# Altium schematic symbol library LVL_SHFT_SN74HCT125DR.SchLib: 1 symbol
Pins are listed as number, name and electrical type; pins without a type are passive.

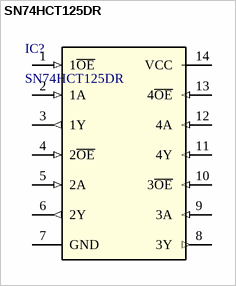
[diagram p0: symbol SN74HCT125DR]

## SN74HCT125DR
designator IC?
Buffer/Line Driver 4-CH Non-Inverting 3-ST CMOS 14-Pin SOIC T/R / IC BUS BUFF TRI-ST QD 14SOIC; Manufacturer: Texas Instruments; Manufacturer Lifecycle Status: ACTIVE; High Level Output Current: -6mA; Logic Function: Buffer, Inverting; Low Level Output Current: 6mA; Max Supply Voltage: 5.5V; Min Supply Voltage: 4.5V; Nominal Supply Current: 8µA; Number of Bits: 4; Number of Bits per Element: 1; Number of Inputs: 2; Operating Supply Voltage: 5V; Propagation Delay: 33ns; Turn-On Delay Time: 36ns; Supplier: DigiKey; Supplier Part Number: 296-1206-6-ND; Manufacturer Part Number: SN74HCT125DR; RoHS: Compliant; Category: Buffers, Drivers and Transceivers; Stock: 5749; Pricing: 1=0,36, 10=0,246, 25=0,2188, 100=0,1888, 250=0,17452, 500=0,16586, 1000=0,15874 (USD); Ambient Temperature Range High: 85°C; Case/Package: SOIC; Contact Plating: Gold; Height: 0m; Lead Free: Lead Free; Length: 8.65mm; Lifecycle Status: Production; Max Operating Temperature: 85°C; Min Operating Temperature: -40°C; Mounting Technology: Surface Mount; Number of Channels: 4; Number of Circuits: 4; Number of Elements: 4; Number of Input Lines: 4; Number of Output Lines: 4; Number of Outputs: 4; Pins: 14; Packaging: Tape & Reel; Polarity: Non-Inverting; Quiescent Current: 8µA; Radiation Hardening: No; REACH SVHC: No; Schedule B: 8542390000, 8542390000|8542390000|8542390000|8542390000|8542390000; Thickness: 1.58mm; Width: 3.91mm; ComponentLink1URL: https://sigma.octopart.com:443/182471030/technical_drawing/Texas-Instruments-SN74HCT125DR.pdf?src-supplier=Texas+Instruments; ComponentLink1Description: https://sigma.octopart.com:443/182471030/technical_drawing/Texas-Instruments-SN74HCT125DR.pdf?src-supplier=Texas+Instruments; ComponentLink2URL: https://octopart.com:443/opatz8j6/c1?t=kHjRTchamf1OEgcfGdw2KSUhwcpvAKIIc-FB5UHfXFvi1I-d_M1T4R10sj4ifHYz9TGNxLSUoWvIx3SI7rvC9uNSW-SqrDIJNlv8Qi0TmNa75oPoh_peB02lt99knWhhM93-ly3GiWOK9yQWYH3AEwBf5hNp6Gt2W6FXe98KXHBOttL1tX1EWPskv1yBnwYgmAirSOxf7aB0EHO2wQ5lloEzqyiVMuVQecV2n3eHBcjfYdHECec4niyiw3ZzGRWDfKyZzV94Ji-xNpTZfWKfZGH4cl8FZzb-4I3xggn-kiOsM3CTV17eBnzS-uHaZHrzlT18rfC2GREHSFSZiIHnrB4Luqi8FPpUJsgor3JQrJkpNEyuNZHLlpbV8UFZZut-UStbLh2o&src-supplier=Texas+Instruments; ComponentLink2Description: https://octopart.com:443/opatz8j6/c1?t=kHjRTchamf1OEgcfGdw2KSUhwcpvAKIIc-FB5UHfXFvi1I-d_M1T4R10sj4ifHYz9TGNxLSUoWvIx3SI7rvC9uNSW-SqrDIJNlv8Qi0TmNa75oPoh_peB02lt99knWhhM93-ly3GiWOK9yQWYH3AEwBf5hNp6Gt2W6FXe98KXHBOttL1tX1EWPskv1yBnwYgmAirSOxf7aB0EHO2wQ5lloEzqyiVMuVQecV2n3eHBcjfYdHECec4niyiw3ZzGRWDfKyZzV94Ji-xNpTZfWKfZGH4cl8FZzb-4I3xggn-kiOsM3CTV17eBnzS-uHaZHrzlT18rfC2GREHSFSZiIHnrB4Luqi8FPpUJsgor3JQrJkpNEyuNZHLlpbV8UFZZut-UStbLh2o&src-supplier=Texas+Instruments; ComponentLink3URL: https://datasheet.octopart.com:443/SN74HCT125DR-Texas-Instruments-datasheet-27379623.pdf?src-supplier=Texas+Instruments; ComponentLink3Description: https://datasheet.octopart.com:443/SN74HCT125DR-Texas-Instruments-datasheet-27379623.pdf?src-supplier=Texas+Instruments; ComponentLink4URL: https://datasheet.octopart.com:443/SN74HCT125DR-Texas-Instruments-datasheet-10254676.pdf?src-supplier=Texas+Instruments; ComponentLink4Description: https://datasheet.octopart.com:443/SN74HCT125DR-Texas-Instruments-datasheet-10254676.pdf?src-supplier=Texas+Instruments; ComponentLink5URL: https://sigma.octopart.com:443/49249646/technical_drawing/Texas-Instruments-SN74HCT125DR.pdf?src-supplier=Texas+Instruments; ComponentLink5Description: https://sigma.octopart.com:443/49249646/technical_drawing/Texas-Instruments-SN74HCT125DR.pdf?src-supplier=Texas+Instruments; ComponentLink6URL: https://datasheet.octopart.com:443/SN74HCT125DR-Texas-Instruments-datasheet-152071.pdf?src-supplier=Texas+Instruments; ComponentLink6Description: https://datasheet.octopart.com:443/SN74HCT125DR-Texas-Instruments-datasheet-152071.pdf?src-supplier=Texas+Instruments; ComponentLink7URL: https://datasheet.octopart.com:443/SN74HCT125DR-Texas-Instruments-datasheet-148780591.pdf?src-supplier=Upverter; ComponentLink7Description: https://datasheet.octopart.com:443/SN74HCT125DR-Texas-Instruments-datasheet-148780591.pdf?src-supplier=Upverter; ComponentLink8URL: https://datasheet.octopart.com:443/SN74HCT125DR-Texas-Instruments-datasheet-164417431.pdf?src-supplier=SHENGYU+ELECTRONICS; ComponentLink8Description: https://datasheet.octopart.com:443/SN74HCT125DR-Texas-Instruments-datasheet-164417431.pdf?src-supplier=SHENGYU+ELECTRONICS; ComponentLink9URL: https://datasheet.octopart.com:443/SN74HCT125DR-Texas-Instruments-datasheet-14145064.pdf?src-supplier=iiiC; ComponentLink9Description: https://datasheet.octopart.com:443/SN74HCT125DR-Texas-Instruments-datasheet-14145064.pdf?src-supplier=iiiC; ComponentLink10URL: https://datasheet.octopart.com:443/SN74HCT125DR-Texas-Instruments-datasheet-11793522.pdf?src-supplier=Arrow+Electronics; ComponentLink10Description: https://datasheet.octopart.com:443/SN74HCT125DR-Texas-Instruments-datasheet-11793522.pdf?src-supplier=Arrow+Electronics; ComponentLink11URL: https://datasheet.octopart.com:443/SN74HCT125DR-Texas-Instruments-datasheet-8637610.pdf?src-supplier=Verical; ComponentLink11Description: https://datasheet.octopart.com:443/SN74HCT125DR-Texas-Instruments-datasheet-8637610.pdf?src-supplier=Verical; ComponentLink12URL: https://datasheet.octopart.com:443/SN74HCT125DR-Texas-Instruments-datasheet-5321032.pdf?src-supplier=Verical; ComponentLink12Description: https://datasheet.octopart.com:443/SN74HCT125DR-Texas-Instruments-datasheet-5321032.pdf?src-supplier=Verical; ComponentLink13URL: https://datasheet.octopart.com:443/SN74HCT125DR-Texas-Instruments-datasheet-10451259.pdf?src-supplier=Jameco; ComponentLink13Description: https://datasheet.octopart.com:443/SN74HCT125DR-Texas-Instruments-datasheet-10451259.pdf?src-supplier=Jameco; ComponentLink14URL: https://datasheet.octopart.com:443/SN74HCT125DR-Texas-Instruments-datasheet-58090.pdf?src-supplier=DigiKey; ComponentLink14Description: https://datasheet.octopart.com:443/SN74HCT125DR-Texas-Instruments-datasheet-58090.pdf?src-supplier=DigiKey; ComponentLink15URL: https://datasheet.octopart.com:443/SN74HCT125DR-Texas-Instruments-datasheet-114889.pdf?src-supplier=Sierra+IC; ComponentLink15Description: https://datasheet.octopart.com:443/SN74HCT125DR-Texas-Instruments-datasheet-114889.pdf?src-supplier=Sierra+IC; ComponentLink16URL: http://sigma.octopart.com:80/conflict_mineral_statement/Texas-Instruments-company-63.pdf?src-supplier=Compliance+Statements; ComponentLink16Description: http://sigma.octopart.com:80/conflict_mineral_statement/Texas-Instruments-company-63.pdf?src-supplier=Compliance+Statements; ComponentLink17URL: http://sigma.octopart.com:80/reach_statement/Texas-Instruments-company-64.pdf?src-supplier=Compliance+Statements; ComponentLink17Description: http://sigma.octopart.com:80/reach_statement/Texas-Instruments-company-64.pdf?src-supplier=Compliance+Statements; Supplier 1: DigiKey; Supplier Part Number 1: 296-1206-1-ND
footprint SOIC127P600X175_HS-15N - TI (SOIC, 14-Leads, Body 8,65x3,90mm, Pitch 1,27mm, Thermal Pad 7,00x3,00mm, IPC Medium Density)
pins: 1 1~{OE} (in), 2 1A (in), 3 1Y (out), 4 2~{OE} (in), 5 2A (in), 6 2Y (out), 7 GND (power), 8 3Y (out), 9 3A (in), 10 3~{OE} (in), 11 4Y (in), 12 4A (in), 13 4~{OE} (in), 14 VCC (power)